# EAGLE library part AF4502 (library Bits_library_eagle)
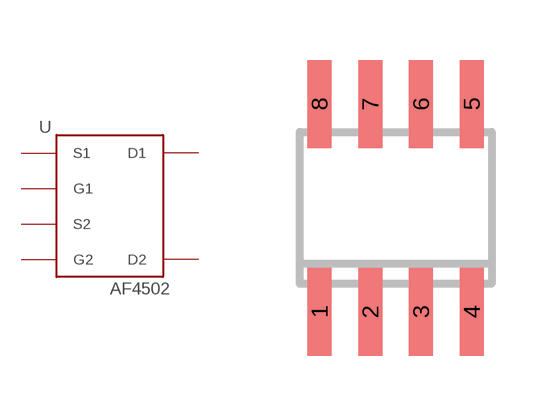
[diagram p23: symbol with the pads of SO8; footprint SO8]

Designator prefix -

## AF4502  [SO8]
1  S1  pwr
2  G1  pwr
3  S2  pwr
4  G2  pwr
5  D2  pwr
6  D2  pwr
7  D1  pwr
8  D1  pwr

## Footprint SO8 (pad centres in mm)
SMALL OUTLINE INTEGRATED CIRCUIT SOP-8L Source: http://www.diodes.com/datasheets/ds31262.pdf
smd 0.6 x 2.2: 1 -1.905,-2.6; 2 -0.635,-2.6; 3 0.635,-2.6; 4 1.905,-2.6; 5 1.905,2.6; 6 0.635,2.6; 7 -0.635,2.6; 8 -1.905,2.6